# Altium schematic symbol library LDS-AD12RI.Schlib: 1 symbol
Pins are listed as number, name and electrical type; pins without a type are passive.

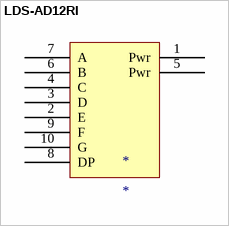
[diagram p0: symbol LDS-AD12RI]

## LDS-AD12RI
designator *
pins: 1 Pwr, 2 E, 3 D, 4 C, 5 Pwr, 6 B, 7 A, 8 DP, 9 F, 10 G